# Altium footprint library Synthiam-roundtrip.PcbLib: 483 footprints (part 14 of 31)
Each footprint in its own frame and in the unit in brackets; x right, y up, seen from the top. Pads: shape width x height; smd on the part's side, far side on the other; paste and mask are expansions set on the pad; w line width, h text height; cw(c..) or ccw(c..) is an arc to the next point about the centre after c.
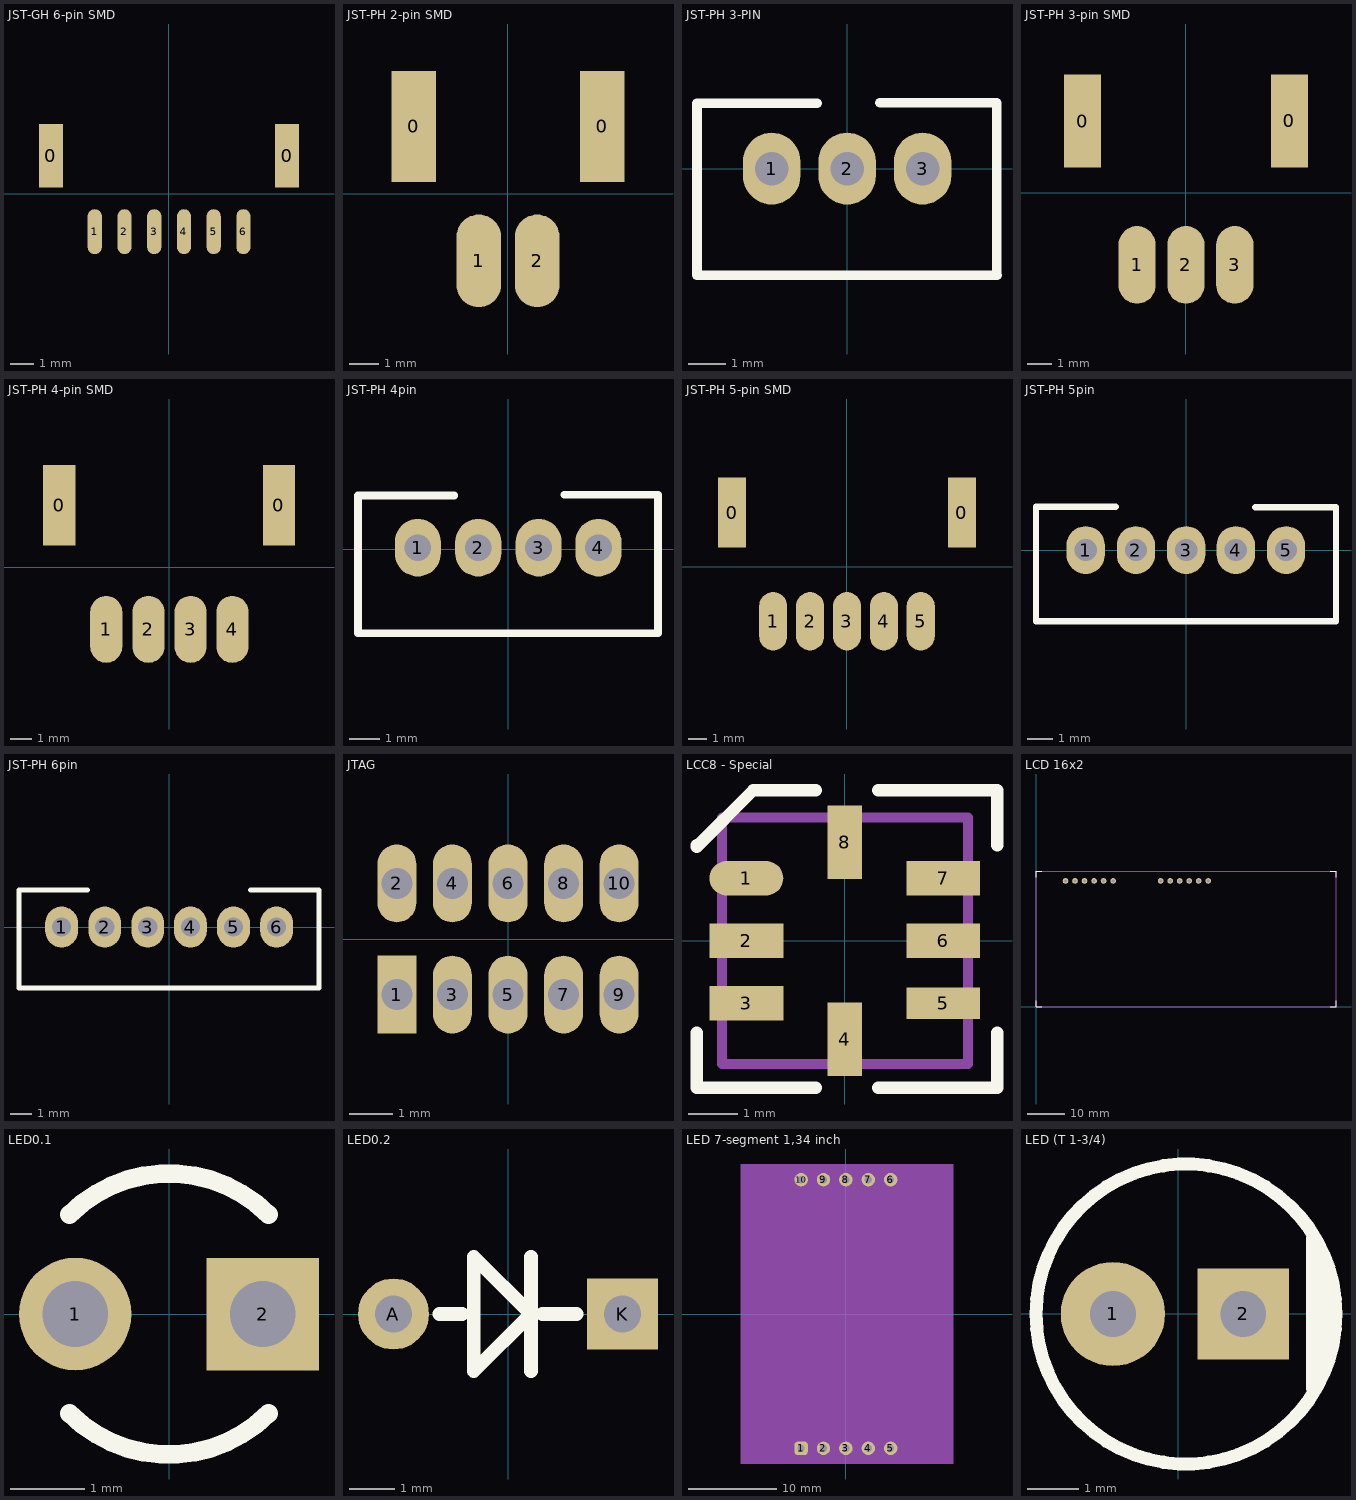
[diagram p13: the footprints below, top view; thin cyan lines are the x and y axes]

## JST-GH 6-pin SMD [mm]
pads (8):
  rect 1x2.7 smd: 0(-4.985,1.604) 0(4.985,1.604)
  oval 0.6x1.9 smd: 1(-3.136,-1.604) 2(-1.88,-1.604) 3(-0.624,-1.604) 4(0.632,-1.604) 5(1.887,-1.604) 6(3.143,-1.604)

## JST-PH 2-pin SMD [mil]
pads (4):
  rect 60x150 smd: 0(-127.24,90.65) 0(127.24,90.65)
  oval 60x125 smd: 1(-39.35,-90.65) 2(39.39,-90.65)

## JST-PH 3-PIN [mil]
pads (3):
  oval 60x75 hole 35: 1(-78.74,0) 2(0,0) 3(78.74,0)
Top Overlay:
  lines w10: -156.69,67.32 -156.69,-111.42 156.37,-111.42 ; -156.69,68.11 -31.1,68.11 ; 34.2,68.9 156.25,68.9 156.25,-111.42

## JST-PH 3-pin SMD [mil]
pads (5):
  rect 60x150 smd: 0(-166.71,115.62) 0(166.71,116.02)
  oval 60x125 smd: 1(-78.82,-116.02) 2(-0.08,-116.02) 3(78.66,-116.02)

## JST-PH 4-pin SMD [mil]
pads (6):
  rect 60x150 smd: 0(-205,115.82) 0(205,115.82)
  oval 60x125 smd: 1(-117.11,-115.82) 2(-38.37,-115.82) 3(40.37,-115.82) 4(118.32,-115.82)

## JST-PH 4pin [mil]
pads (4):
  oval 60x75 hole 35: 1(-118.11,2.36) 2(-39.37,2.36) 3(39.37,2.36) 4(117.32,2.36)
Top Overlay:
  lines w10: -196.06,69.69 -196.06,-109.06 194.88,-109.06 194.88,71.26 72.83,71.26 ; -196.06,70.47 -70.47,70.47

## JST-PH 5-pin SMD [mil]
pads (7):
  rect 60x150 smd: 0(-245.75,116.02) 0(245.75,116.02)
  oval 60x125 smd: 1(-157.86,-116.02) 2(-78.97,-116.02) 3(-0.08,-116.02) 4(78.81,-116.02) 5(157.69,-116.02)

## JST-PH 5pin [mil]
pads (5):
  oval 60x75 hole 35: 1(-157.48,0.39) 2(-78.74,0.39) 3(0,0.39) 4(77.95,0.39) 5(156.69,0.39)
Top Overlay:
  lines w10: -110.63,68.11 -235.43,68.11 -235.43,-111.02 235.04,-111.02 235.04,67.72 108.66,67.72

## JST-PH 6pin [mil]
pads (6):
  oval 60x75 hole 35: 1(-196.46,0) 2(-117.72,0) 3(-38.98,0) 4(38.98,0) 5(117.72,0) 6(196.46,0)
Top Overlay:
  lines w10: -149.61,67.72 -274.41,67.72 -274.41,-111.42 273.62,-111.42 ; 149.21,67.72 274.02,67.72 274.02,-111.42

## JTAG [mil]
pads (10):
  rect 35x70 hole 28: 1(-100,-50)
  oval 35x70 hole 28: 2(-100,50) 3(-50,-50) 4(-50,50) 5(0,-50) 6(0,50) 7(50,-50) 8(50,50) 9(100,-50) 10(100,50)

## LCC8 - Special [mm]
pads (8):
  oval 1.5x0.7 smd: 1(-2,1.27)
  rect 1.5x0.7 smd: 2(-2,0) 3(-2,-1.27) 6(2,0) 7(2,1.27)
  rect 0.7x1.5 smd: 4(0,-2) 8(0,2)
  rect 1.5x0.635 smd: 5(2,-1.27)
Top Overlay:
  lines w0.254: -3.003,-1.87 -3.003,-2.987 -0.59,-2.987 ; -3.003,1.94 -3.003,1.915 -1.86,3.058 -0.59,3.058 ; 0.68,-2.987 3.093,-2.987 3.093,-1.87 ; 0.68,3.058 3.093,3.058 3.093,1.94
Mechanical 1:
  lines w0.203: -2.5,-2.5 -2.5,2.5 2.5,2.5 2.5,-2.5 -2.5,-2.5

## LCD 16x2 [mm]
pads (12):
  round 1.5 hole 0.9: 1(7.849,33.553) 2(10.389,33.553) 3(12.929,33.553) 4(15.469,33.553) 5(18.009,33.553) 6(20.549,33.553) 11(33.249,33.553) 12(35.789,33.553) 13(38.329,33.553) 14(40.869,33.553) 15(43.409,33.553) 16(45.949,33.553)
Top Overlay:
  lines w0.203: -0.025,1.549 -0.025,0.025 1.499,0.025 ; -0.025,34.569 -0.025,36.093 1.499,36.093 ; 78.537,0.025 80.061,0.025 80.061,1.549 ; 78.537,36.093 80.061,36.093 80.061,34.569
Mechanical 1:
  lines w0.203: -0.025,0.025 -0.025,36.093 80.061,36.093 80.061,0.025 -0.025,0.025

## LED0.1 [mil]
pads (2):
  round 60 hole 35: 1(-50,0)
  rect 60x60 hole 35: 2(50,0)
Top Overlay:
  lines w10: -53.03,-53.03 ccw(c0,0) 53.03,-53.03 ; -53.03,53.03 cw(c0,0) 53.03,53.03

## LED0.2 [mil]
pads (2):
  round 62 hole 32: A(-100,0)
  rect 62x62 hole 32: K(100,0)
Top Overlay:
  lines w12: -60,0 -40,0 ; 20,-50 20,50 ; 30,0 60,0 ; -30,-50 -30,50 20,0 -30,-50

## LED 7-segment 1,34 inch [mil]
pads (10):
  rrect50% 60x60 hole 32: 1(-200,-600)
  round 60 hole 32: 2(-100,-600) 3(0,-600) 4(100,-600) 5(200,-600) 6(200,600) 7(100,600) 8(0,600) 9(-100,600) 10(-200,600)
Mechanical 1:
  rectangle: -470,-670 480,670

## LED (T 1-3/4) [mil]
pads (2):
  round 80 hole 35: 1(-50,0)
  rect 70x70 hole 35: 2(50,0)
Top Overlay:
  circle w10: c6,0 r115
  lines w12: 104,-57 104,58 ; 111,-33 111,33